# Altium schematic symbol library DIODE,Zener,51V,500mW,Thru.Schlib: 1 symbol
Pins are listed as number, name and electrical type; pins without a type are passive.

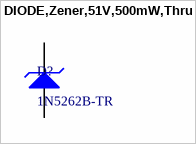
[diagram p0: symbol DIODE,Zener,51V,500mW,Thru]

## DIODE,Zener,51V,500mW,Thru
designator D?, comment 1N5262B-TR
Zener Diode 51 V 500 mW ±5% Through Hole DO-35 (DO-204AH)
pins: 1 K, 2 A